# Altium footprint library gateway2.PcbLib: 43 footprints (part 3 of 3)
Each footprint in its own frame and in the unit in brackets; x right, y up, seen from the top. Pads: shape width x height; smd on the part's side, far side on the other; paste and mask are expansions set on the pad; w line width, h text height; cw(c..) or ccw(c..) is an arc to the next point about the centre after c.
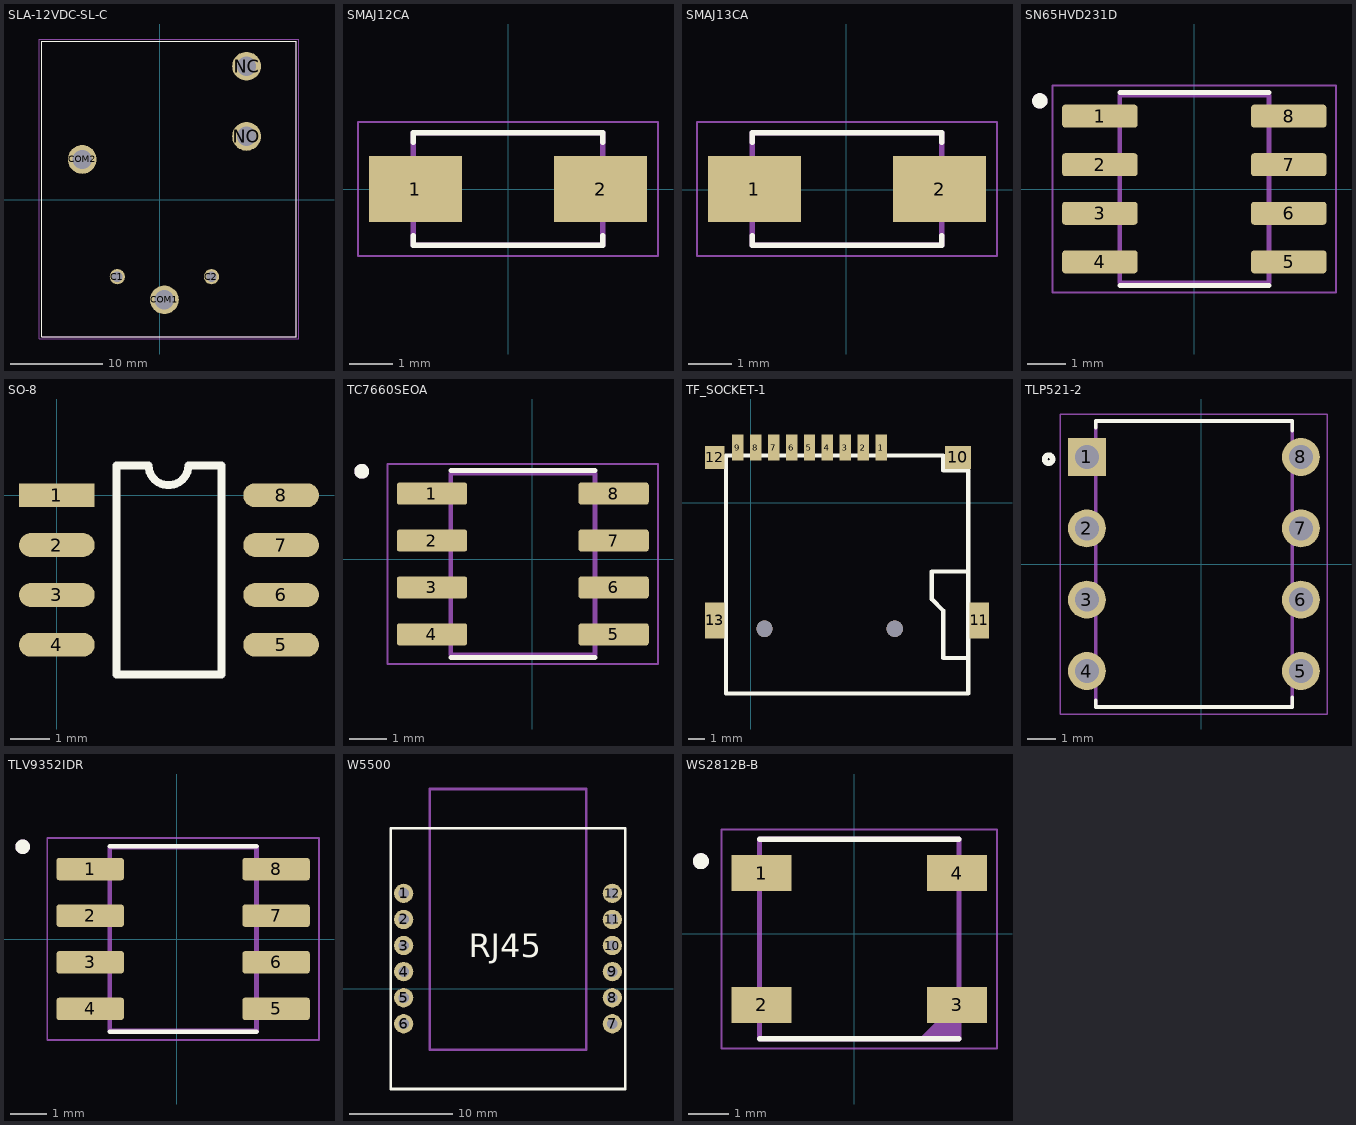
[diagram p2: the footprints below, top view; thin cyan lines are the x and y axes]

## SLA-12VDC-SL-C [mm]
pads (6):
  round 1.65 hole 1.1: C1(-4.592,-8.342) C2(5.608,-8.342)
  round 3.116 hole 2.1: COM1(0.508,-10.842) COM2(-8.392,4.358) NC(9.408,14.458) NO(9.408,6.858)
Top Overlay:
  lines w0.127: -12.792,-14.842 14.808,-14.842 14.808,17.158 -12.792,17.158 -12.792,-14.842
Mechanical 13:
  lines w0.127: -12.792,-14.842 14.808,-14.842 14.808,17.158 -12.792,17.158 -12.792,-14.842
Mechanical 15:
  lines w0.05: -13.042,-15.092 15.058,-15.092 15.058,17.408 -13.042,17.408 -13.042,-15.092
3D body "step_temp.STEP": height 20.4, standoff -3.2, extent -12.792,-14.842 14.808,17.158

## SMAJ12CA [mm]
pads (2):
  rect 2.12x1.5 smd: 1(-2.115,0) 2(2.115,0)
Top Overlay:
  lines w0.127: -2.165,-1.07 -2.165,-1.28 2.165,-1.28 2.165,-1.07 ; -2.165,1.07 -2.165,1.28 2.165,1.28 2.165,1.07
Mechanical 13:
  lines w0.127: -2.165,-1.28 2.165,-1.28 2.165,1.28 -2.165,1.28 -2.165,-1.28
Mechanical 15:
  lines w0.05: -3.425,-1.53 3.425,-1.53 3.425,1.53 -3.425,1.53 -3.425,-1.53
3D body "step_temp.STEP": height 2.5, standoff 0, extent -2.57,-1.28 2.57,1.28

## SMAJ13CA [mm]
pads (2):
  rect 2.12x1.5 smd: 1(-2.103,0.016) 2(2.127,0.016)
Top Overlay:
  lines w0.127: -2.153,-1.054 -2.153,-1.264 2.177,-1.264 2.177,-1.054 ; -2.153,1.086 -2.153,1.296 2.177,1.296 2.177,1.086
Mechanical 13:
  lines w0.127: -2.153,-1.264 -2.153,1.296 2.177,1.296 2.177,-1.264 -2.153,-1.264
Mechanical 15:
  lines w0.05: -3.413,-1.514 -3.413,1.546 3.437,1.546 3.437,-1.514 -3.413,-1.514

## SN65HVD231D [mm]
pads (8):
  rrect25% 1.97x0.6 smd: 1(-2.47,1.905) 2(-2.47,0.635) 3(-2.47,-0.635) 4(-2.47,-1.905) 5(2.47,-1.905) 6(2.47,-0.635) 7(2.47,0.635) 8(2.47,1.905)
Top Overlay:
  circle w0.2: c-4.04,2.305 r0.1
  lines w0.127: -1.95,-2.525 1.95,-2.525 ; -1.95,2.525 1.95,2.525
Mechanical 13:
  circle w0.2: c-4.04,2.305 r0.1
  lines w0.127: -1.95,-2.452 -1.95,2.452 1.95,2.452 1.95,-2.452 -1.95,-2.452
Mechanical 15:
  lines w0.05: -3.705,-2.702 -3.705,2.702 3.705,2.702 3.705,-2.702 -3.705,-2.702

## SO-8 [mil]
pads (8):
  rect 76x24 smd: 1(0,0)
  oval 76x24 smd: 2(0,-50) 3(0,-100) 4(0,-150) 5(225,-150) 6(225,-100) 7(225,-50) 8(225,0)
Top Overlay:
  lines w8: 60,-180 165,-180 165,30 132,30 cw(c112,30) 92,30 60,30 60,-180

## TC7660SEOA [mm]
pads (8):
  rrect25% 1.9x0.6 smd: 1(-2.709,1.778) 2(-2.709,0.508) 3(-2.709,-0.762) 4(-2.709,-2.032) 5(2.201,-2.032) 6(2.201,-0.762) 7(2.201,0.508) 8(2.201,1.778)
Top Overlay:
  circle w0.2: c-4.609,2.378 r0.1
  lines w0.127: -2.204,-2.652 1.696,-2.652 ; -2.204,2.398 1.696,2.398
Mechanical 13:
  circle w0.2: c-4.609,2.378 r0.1
  lines w0.127: -2.204,-2.577 -2.204,2.323 1.696,2.323 1.696,-2.577 -2.204,-2.577
Mechanical 15:
  lines w0.05: -3.909,-2.827 -3.909,2.573 3.401,2.573 3.401,-2.827 -3.909,-2.827

## TF_SOCKET-1 [mm]
height 2
pads (13):
  rect 0.7x1.6 smd: 1(8,3.4) 2(6.9,3.4) 3(5.8,3.4) 4(4.7,3.4) 5(3.6,3.4) 6(2.5,3.4) 7(1.4,3.4) 8(0.3,3.4) 9(-0.8,3.4)
  rect 1.6x1.4 smd: 10(12.7,2.8)
  rect 1.2x2.2 smd: 11(14,-7.2) 13(-2.2,-7.2)
  rect 1.2x1.4 smd: 12(-2.2,2.8)
via 0.838,-7.709 diameter 1 hole 1
via 8.838,-7.709 diameter 1 hole 1
Top Overlay:
  lines w0.254: 13.3,-9.5 11.8,-9.5 11.8,-8.2 11.8,-6.6 11.1,-5.9 11.1,-4.2 13.3,-4.2 ; -1.524,-11.684 -1.524,2.921 11.779,2.921 11.8,2.9 11.8,2 13.335,2 13.335,-11.684 9.271,-11.684 -1.524,-11.684
3D body "User Library-MEM2055-00-190-01-A_revG.STEP": height 1.85, standoff -0.6, extent -2.224,-11.557 13.776,3.693

## TLP521-2 [mm]
pads (8):
  rect 1.35x1.35 hole 0.85: 1(-4.064,3.81)
  round 1.35 hole 0.85: 2(-4.064,1.27) 3(-4.064,-1.27) 4(-4.064,-3.81) 5(3.556,-3.81) 6(3.556,-1.27) 7(3.556,1.27) 8(3.556,3.81)
Top Overlay:
  circle w0.2: c-5.424,3.73 r0.141
  lines w0.127: -3.754,-4.85 -3.754,-5.09 3.246,-5.09 3.246,-4.75 ; -3.754,4.85 -3.754,5.09 3.246,5.09 3.246,4.75
Mechanical 13:
  lines w0.127: -3.754,-5.09 3.246,-5.09 3.246,5.09 -3.754,5.09 -3.754,-5.09
Mechanical 15:
  lines w0.05: -5.004,-5.34 4.496,-5.34 4.496,5.34 -5.004,5.34 -5.004,-5.34

## TLV9352IDR [mm]
pads (8):
  rrect25% 1.84x0.61 smd: 1(-2.355,1.915) 2(-2.355,0.645) 3(-2.355,-0.625) 4(-2.355,-1.895) 5(2.715,-1.895) 6(2.715,-0.625) 7(2.715,0.645) 8(2.715,1.915)
Top Overlay:
  circle w0.2: c-4.195,2.525 r0.1
  lines w0.127: -1.82,-2.52 2.18,-2.52 ; -1.82,2.54 2.18,2.54
Mechanical 13:
  circle w0.2: c-4.195,2.525 r0.1
  lines w0.127: -1.82,-2.49 -1.82,2.51 2.18,2.51 2.18,-2.49 -1.82,-2.49
Mechanical 15:
  lines w0.05: -3.525,-2.74 -3.525,2.76 3.885,2.76 3.885,-2.74 -3.525,-2.74
3D body "step_temp.STEP": height 1.75, standoff 0, extent -2.817,-2.441 3.177,2.461

## W5500 [mil]
pads (12):
  round 74 hole 40 paste+0 mask+2: 1(1280,365) 2(1280,265) 3(1280,165) 4(1280,65) 5(1280,-35) 6(1280,-135) 7(2080,-135) 8(2080,-35) 9(2080,65) 10(2080,165) 11(2080,265) 12(2080,365)
Top Overlay:
  lines w10: 1230,-385 1230,615 2130,615 2130,-385 1230,-385
  text "RJ45" at 1530,120 h90
Mechanical 15:
  lines w10: 1380,-235 1380,765 1980,765 1980,-235 1380,-235

## WS2812B-B [mm]
pads (4):
  rect 1.5x0.9 smd: 1(-2.323,1.523) 2(-2.323,-1.777) 3(2.577,-1.777) 4(2.577,1.523)
Top Overlay:
  circle w0.2: c-3.843,1.823 r0.1
  lines w0.127: -2.373,-2.627 2.627,-2.627 ; -2.373,2.373 2.627,2.373
Mechanical 13:
  circle w0.2: c-3.843,1.823 r0.1
  region: 2.627,-2.627 1.627,-2.627 2.627,-1.627
  lines w0.127: -2.373,-2.627 2.627,-2.627 2.627,2.373 -2.373,2.373 -2.373,-2.627
Mechanical 15:
  lines w0.05: -3.323,-2.877 -3.323,2.623 3.577,2.623 3.577,-2.877 -3.323,-2.877